# Altium schematic symbol library IC_Other.SchLib: 4 symbols
Pins are listed as number, name and electrical type; pins without a type are passive.

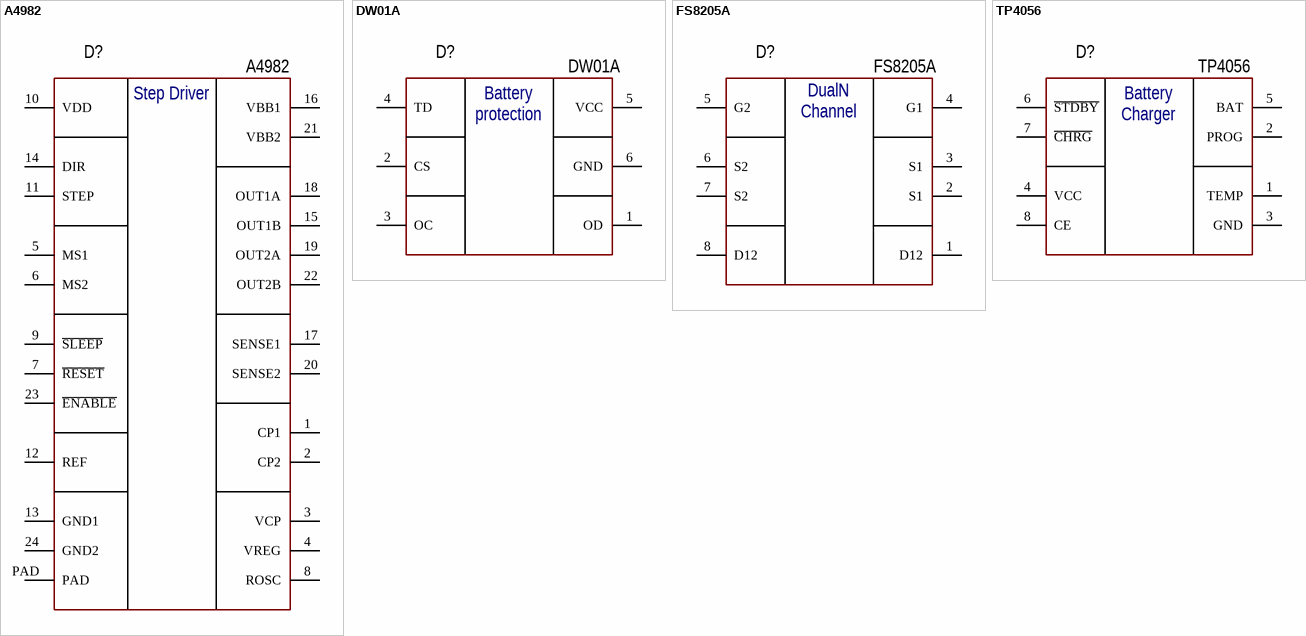
[diagram p0: symbols A4982 to TP4056]

## A4982
designator D?  УникальныйНомер: A4982
Драйвер шагового двигателя; Производитель: UMW(Youtai Semiconductor Co., Ltd.); Ссылка: ***; Типоразмер: SOIC 8; ТипКомпонента: Battery Charger
footprint 24-TSSOP-PAD (pitch 0.65 mm)
pins: 1 CP1, 2 CP2, 3 VCP, 4 VREG, 5 MS1, 6 MS2, 7 ~{RESET} (power), 8 ROSC, 9 ~{SLEEP}, 10 VDD, 11 STEP, 12 REF, 13 GND1, 14 DIR, 15 OUT1B, 16 VBB1, 17 SENSE1, 18 OUT1A, 19 OUT2A, 20 SENSE2, 21 VBB2, 22 OUT2B, 23 ~{ENABLE} (power), 24 GND2, PAD
text: Step Driver

## DW01A
designator D?  УникальныйНомер: DW01A
Battery protection; Производитель: PUOLOP; Ссылка: ***; Типоразмер: SOT23-6; ТипКомпонента: Battery protection
footprint SOT23-6 (pitch 0.95 mm)
pins: 1 OD, 2 CS (power), 3 OC, 4 TD, 5 VCC, 6 GND

## FS8205A
designator D?  УникальныйНомер: FS8205A
DualN-Channel MOSFET; Производитель: Fortune Semicon; Ссылка: ***; Типоразмер: TSSOP-8; ТипКомпонента: DualN-Channel MOSFET
footprint 8-TSSOP (pitch 0.65 mm)
pins: 1 D12, 2 S1, 3 S1, 4 G1, 5 G2, 6 S2 (power), 7 S2, 8 D12
text: DualN Channel MOSFET

## TP4056
designator D?  УникальныйНомер: TP4056
Standalone Linear Li-lon Battery Charger with Thermal Regulation; Производитель: UMW(Youtai Semiconductor Co., Ltd.); Ссылка: ***; Типоразмер: SOIC 8; ТипКомпонента: Battery Charger
footprint 8-SOIC-PAD (pitch 1.27 mm, power pad)
pins: 1 TEMP, 2 PROG, 3 GND, 4 VCC, 5 BAT, 6 ~{STDBY}, 7 ~{CHRG} (power), 8 CE